# EAGLE library part PL2303SA__LF (library PL2303SA__LF)
SOP-8_150mil USB ICs Source: Datasheet <https://datasheet.lcsc.com/szlcsc/1809200034_Prolific-Tech-PL2303SA-LF_C57946.pdf>
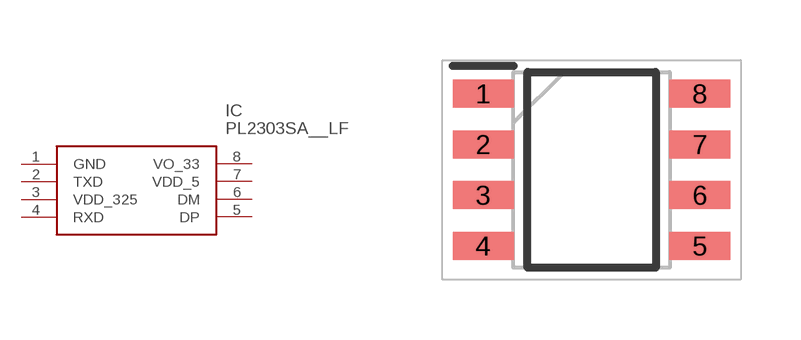
[diagram p0: symbol with the pads of SOIC127P600X170-8N; footprint SOIC127P600X170-8N]

Designator prefix IC

## PL2303SA__LF (Description: SOP-8_150mil USB ICs; Height: 1.7mm; Manufacturer_Name: Prolific Tech; Manufacturer_Part_Number: PL2303SA LF)  [SOIC127P600X170-8N]
1  GND
2  TXD
3  VDD_325
4  RXD
5  DP
6  DM
7  VDD_5
8  VO_33

## Footprint SOIC127P600X170-8N (pad centres in mm)
SOP8 Package
smd 1.525 x 0.7: 1 -2.712,1.905; 2 -2.712,0.635; 3 -2.712,-0.635; 4 -2.712,-1.905; 5 2.712,-1.905; 6 2.712,-0.635; 7 2.712,0.635; 8 2.712,1.905